# Altium schematic symbol library LM78L05ACZ.Schlib: 1 symbol
Pins are listed as number, name and electrical type; pins without a type are passive.

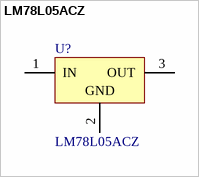
[diagram p0: symbol LM78L05ACZ]

## LM78L05ACZ
designator U?
3-Terminal Positive Regulator
pins: 1 IN (power), 2 GND (power), 3 OUT (power)